# Altium footprint library JP.PcbLib: 182 footprints (part 3 of 12)
Each footprint in its own frame and in the unit in brackets; x right, y up, seen from the top. Pads: shape width x height; smd on the part's side, far side on the other; paste and mask are expansions set on the pad; w line width, h text height; cw(c..) or ccw(c..) is an arc to the next point about the centre after c.
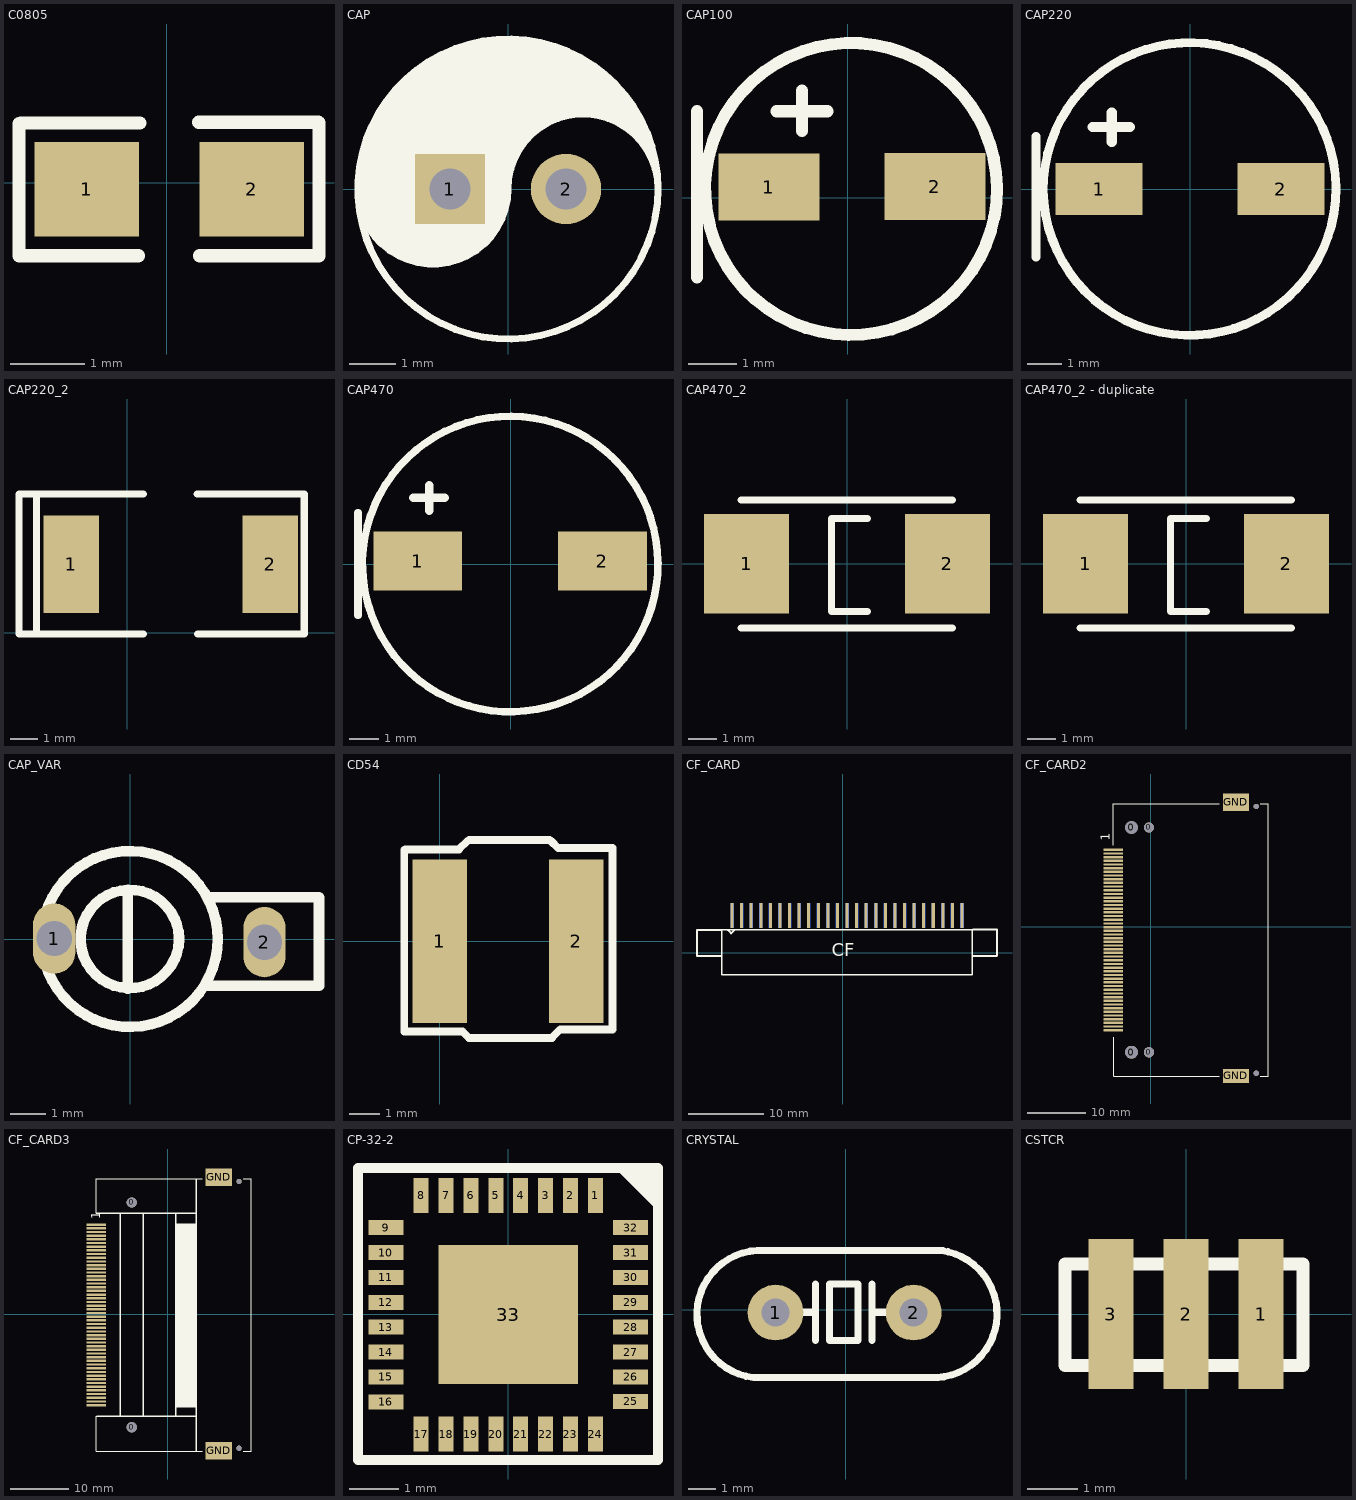
[diagram p2: the footprints below, top view; thin cyan lines are the x and y axes]

## C0805 [mm]
pads (2):
  rect 1.4x1.27 smd: 1(-1.071,-0.087) 2(1.139,-0.087)
Top Overlay:
  lines w0.178: -1.98,-0.98 -0.38,-0.98 ; -1.98,-0.976 -1.98,0.792 ; -1.96,0.8 -0.36,0.8 ; 0.43,0.81 2.03,0.81 ; 0.44,-0.98 2.04,-0.98 ; 2.04,-0.976 2.04,0.802

## CAP [mil]
pads (2):
  rect 60x60 hole 35: 1(-49.5,0)
  round 60 hole 35: 2(49.5,0)
Top Overlay:
  circle w6: c0,0 r127.95
  region: -127,-15 -127,30 -103,78 -64,112 -25,126 8,127 36,123 68,108 86,94 111,66 121,42 120,36 108,45 83,63 48,63 27,52 11,36 3,17 -1,-11 -10,-36 -29,-55 -57,-64 -84,-61 -109,-46 -125,-25
  lines w6: -127.95,0 ccw(c-63.98,0) 0,0 cw(c63.98,0) 127.95,0

## CAP100 [mm]
pads (2):
  rect 2.1x1.4 smd: 1(-1.64,0.22) 2(1.82,0.23)
Top Overlay:
  lines w0.254: -3.14,-1.66 -3.14,1.8 ; -1.48,1.8 -0.42,1.8 ; -0.95,1.39 -0.95,2.23 ; 3.113,0.2 cw(c0.07,0.18) 3.112,0.221

## CAP220 [mm]
pads (2):
  rect 2.5x1.5 smd: 1(-2.61,0) 2(2.61,0)
Top Overlay:
  lines w0.254: -4.42,-1.95 -4.42,1.51 ; 4.19,0.028 cw(c-0.01,0) 4.19,0.056
  lines w0.3: -2.79,1.78 -1.73,1.78 ; -2.25,1.35 -2.25,2.19

## CAP220_2 [mm]
height 4
pads (2):
  rect 2x3.5 smd: 1(-2.02,2.46) 2(5.15,2.46)
Top Overlay:
  lines w0.254: -3.27,0 -3.27,4.98 ; 0.58,-0.05 -3.9,-0.05 -3.9,4.99 0.59,4.99 ; 2.51,4.99 6.37,4.99 6.37,-0.05 2.53,-0.05
3D body: height 4, standoff 0, extent -3.122,0.608 6.252,4.312

## CAP470 [mm]
pads (2):
  rect 3x2 smd: 1(-3.14,0.1) 2(3.11,0.1)
Top Overlay:
  lines w0.254: -5.16,-1.73 -5.16,1.73 ; 4.99,0.034 cw(c-0.01,0) 4.99,0.067
  lines w0.3: -3.29,2.24 -2.23,2.24 ; -2.75,1.81 -2.75,2.65

## CAP470_2 [mm]
pads (2):
  rect 3x3.5 smd: 1(-3.54,0) 2(3.54,0)
Top Overlay:
  lines w0.25: -3.73,-2.26 3.72,-2.26 ; -3.73,2.24 3.72,2.24 ; 0.73,-1.68 -0.54,-1.68 -0.54,1.59 0.73,1.59
3D body: height 3, standoff 0, extent -3.855,-2.385 3.845,2.365

## CAP470_2 - duplicate [mm]
pads (2):
  rect 3x3.5 smd: 1(-3.54,0) 2(3.54,0)
Top Overlay:
  lines w0.25: -3.73,-2.26 3.72,-2.26 ; -3.73,2.24 3.72,2.24 ; 0.73,-1.68 -0.54,-1.68 -0.54,1.59 0.73,1.59
3D body: height 3, standoff 0, extent -3.855,-2.385 3.845,2.365

## CAP_VAR [mm]
pads (2):
  oval 1.2x2 hole 1: 1(-2.17,0.02) 2(3.81,-0.08)
Top Overlay:
  circle w0.3: c-0.02,0.01 r2.5
  circle w0.3: c-0.02,0.01 r1.4
  lines w0.3: -0.08,-1.4 -0.08,1.37 ; 2.22,-1.32 5.36,-1.32 ; 2.28,1.2 5.34,1.2 ; 5.36,-1.31 5.36,1.19

## CD54 [mm]
pads (2):
  rect 1.8x5.4 smd: 1(0,0) 2(4.5,0)
Top Overlay:
  lines w0.254: 0.94,3.32 0.92,3.32 0.63,3.03 -1.14,3.03 -1.16,3.01 -1.17,3.01 -1.17,-2.9 -1.17,-2.98 0.75,-2.98 0.96,-3.19 3.7,-3.19 3.98,-2.91 5.7,-2.91 5.7,3.08 5.54,3.08 3.93,3.08 ; 0.97,3.34 3.62,3.34 ; 3.66,3.31 3.67,3.31 3.91,3.07

## CF_CARD [mm]
pads (50):
  rect 0.4x3.3 smd far side: 1(-14.65,4.92) 3(-13.38,4.92) 5(-12.11,4.92) 7(-10.84,4.92) 9(-9.57,4.92) 11(-8.3,4.92) 13(-7.03,4.92) 15(-5.76,4.92) 17(-4.49,4.92) 19(-3.22,4.92) 21(-1.95,4.92) 23(-0.68,4.92) 25(0.59,4.92) 27(1.86,4.92) 29(3.13,4.92) 31(4.4,4.92) 33(5.67,4.92) 35(6.94,4.92) 37(8.21,4.92) 39(9.48,4.92) 41(10.75,4.92) 43(12.02,4.92) 45(13.29,4.92) 47(14.56,4.92) 49(15.83,4.92)
  rect 0.4x3.3 smd: 2(-14.65,4.92) 4(-13.38,4.92) 6(-12.11,4.92) 8(-10.84,4.92) 10(-9.57,4.92) 12(-8.3,4.92) 14(-7.03,4.92) 16(-5.76,4.92) 18(-4.49,4.92) 20(-3.22,4.92) 22(-1.95,4.92) 24(-0.68,4.92) 26(0.59,4.92) 28(1.86,4.92) 30(3.13,4.92) 32(4.4,4.92) 34(5.67,4.92) 36(6.94,4.92) 38(8.21,4.92) 40(9.48,4.92) 42(10.75,4.92) 44(12.02,4.92) 46(13.29,4.92) 48(14.56,4.92) 50(15.83,4.92)
Top Overlay:
  lines w0.203: -16.03,-2.96 17.2,-2.96 17.2,3.06 -16.03,3.06 -16.03,-2.95
  lines w0.254: -16.08,-0.45 -19.3,-0.45 -19.3,2.99 -19.27,3.02 -15.96,3.02 ; -15.245,3.025 -14.78,2.56 ; -14.78,2.55 -14.3,3.03 ; 17.21,-0.43 20.44,-0.43 20.47,-0.4 20.47,3.04 17.25,3.04
  text "CF" at -1.43,-1.08 h3

## CF_CARD2 [mm]
pads (58):
  round 2.2 hole 2.2 unplated: 0(-3.331,-21.631) 0(-3.331,17.104)
  round 1.75 hole 1.75 unplated: 0(-0.331,-21.631) 0(-0.331,17.104)
  round 0.9 hole 0.9 unplated: 0(18.169,-25.261) 0(18.169,20.739)
  rect 3.302x0.4 smd: 1(-6.485,13.271) 2(-6.485,12.636) 3(-6.485,12.001) 4(-6.485,11.366) 5(-6.485,10.731) 6(-6.485,10.096) 7(-6.485,9.461) 8(-6.485,8.826) 9(-6.485,8.191) 10(-6.485,7.556) 11(-6.485,6.921) 12(-6.485,6.286) 13(-6.485,5.651) 14(-6.485,5.016) 15(-6.485,4.381) 16(-6.485,3.746) 17(-6.485,3.111) 18(-6.485,2.476) 19(-6.485,1.841) 20(-6.485,1.206) 21(-6.485,0.571) 22(-6.485,-0.064) 23(-6.485,-0.699) 24(-6.485,-1.334) 25(-6.485,-1.969) 26(-6.485,-2.604) 27(-6.485,-3.239) 28(-6.485,-3.874) 29(-6.485,-4.509) 30(-6.485,-5.144) 31(-6.485,-5.779) 32(-6.485,-6.414) 33(-6.485,-7.049) 34(-6.485,-7.684) 35(-6.485,-8.319) 36(-6.485,-8.954) 37(-6.485,-9.589) 38(-6.485,-10.224) 39(-6.485,-10.859) 40(-6.485,-11.494) 41(-6.485,-12.129) 42(-6.485,-12.764) 43(-6.485,-13.399) 44(-6.485,-14.034) 45(-6.485,-14.669) 46(-6.485,-15.304) 47(-6.485,-15.939) 48(-6.485,-16.574) 49(-6.485,-17.209) 50(-6.485,-17.844)
  rect 4.5x2.4 smd: GND(14.669,-25.721)
  rect 4.5x3 smd: GND(14.669,21.489)
Top Overlay:
  lines w0.203: -6.44,14.029 -6.44,21.239 11.837,21.239 ; -6.43,-19.046 -6.43,-25.761 11.837,-25.761 ; 18.903,-25.761 20.269,-25.761 20.269,21.239 18.903,21.239
  text "1" at -7.04,14.79 h1.52

## CF_CARD3 [mm]
pads (56):
  round 1.75 hole 1.75 unplated: 0(-6.248,-19.515) 0(-6.248,19.22)
  round 0.9 hole 0.9 unplated: 0(12.252,-23.145) 0(12.252,22.855)
  rect 3.302x0.4 smd: 1(-12.355,15.411) 2(-12.355,14.776) 3(-12.355,14.141) 4(-12.355,13.506) 5(-12.355,12.871) 6(-12.355,12.236) 7(-12.355,11.601) 8(-12.355,10.966) 9(-12.355,10.331) 10(-12.355,9.696) 11(-12.355,9.061) 12(-12.355,8.426) 13(-12.355,7.791) 14(-12.355,7.156) 15(-12.355,6.521) 16(-12.355,5.886) 17(-12.355,5.251) 18(-12.355,4.616) 19(-12.355,3.981) 20(-12.355,3.346) 21(-12.355,2.711) 22(-12.355,2.076) 23(-12.355,1.441) 24(-12.355,0.806) 25(-12.355,0.171) 26(-12.355,-0.464) 27(-12.355,-1.099) 28(-12.355,-1.734) 29(-12.355,-2.369) 30(-12.355,-3.004) 31(-12.355,-3.639) 32(-12.355,-4.274) 33(-12.355,-4.909) 34(-12.355,-5.544) 35(-12.355,-6.179) 36(-12.355,-6.814) 37(-12.355,-7.449) 38(-12.355,-8.084) 39(-12.355,-8.719) 40(-12.355,-9.354) 41(-12.355,-9.989) 42(-12.355,-10.624) 43(-12.355,-11.259) 44(-12.355,-11.894) 45(-12.355,-12.529) 46(-12.355,-13.164) 47(-12.355,-13.799) 48(-12.355,-14.434) 49(-12.355,-15.069) 50(-12.355,-15.704)
  rect 4.5x3 smd: GND(8.752,-23.605) GND(8.752,23.605)
Top Overlay:
  rectangle: 1.26,-16.15 4.96,15.64
  lines w0.203: -12.367,-23.644 -12.367,-17.644 ; -12.367,17.346 -12.367,23.346 ; -12.357,23.355 5.919,23.355 ; -12.347,-23.645 5.919,-23.645 ; 12.985,-23.645 14.352,-23.645 14.352,23.355 12.985,23.355
  lines w0.25: -4.23,-17.52 -4.23,17.25
  lines w0.254: -12.337,17.376 -8.267,17.376 -8.267,-17.534 ; -12.307,-17.654 -8.307,-17.654 ; -8.49,17.376 4.82,17.376 ; -8.44,-17.654 4.87,-17.654 ; 1.35,-17.64 1.35,17.31 ; 4.87,-23.554 4.87,23.33
  text "1" at -11.66,16.32 h1.52

## CP-32-2 [mm]
pads (33):
  rect 0.3x0.7 smd: 1(1.75,2.39) 2(1.25,2.39) 3(0.75,2.39) 4(0.25,2.39) 5(-0.25,2.39) 6(-0.75,2.39) 7(-1.25,2.39) 8(-1.75,2.39) 17(-1.75,-2.41) 18(-1.25,-2.41) 19(-0.75,-2.41) 20(-0.25,-2.41) 21(0.25,-2.41) 22(0.75,-2.41) 23(1.25,-2.41) 24(1.75,-2.41)
  rect 0.7x0.3 smd: 9(-2.46,1.74) 10(-2.46,1.24) 11(-2.46,0.74) 12(-2.46,0.24) 13(-2.46,-0.26) 14(-2.46,-0.76) 15(-2.46,-1.26) 16(-2.46,-1.76) 25(2.46,-1.75) 26(2.46,-1.26) 27(2.46,-0.76) 28(2.46,-0.26) 29(2.46,0.24) 30(2.46,0.74) 31(2.46,1.24) 32(2.46,1.74)
  rect 2.794x2.794 smd: 33(0,-0.01)
Top Overlay:
  lines w0.2: -2.01,-2.93 3.01,-2.93 3.01,2.9 3.01,2.94 -3.02,2.94 -3.02,-2.82 -3.02,-2.86 -3.02,-2.89 -3.02,-2.93 -1.78,-2.93 ; 2.14,2.94 2.45,2.94 3.01,2.38 ; 2.25,2.94 2.28,2.94 2.97,2.25 ; 2.7,2.91 2.7,2.89 2.94,2.65 ; 2.86,2.91 2.86,2.88 2.92,2.82

## CRYSTAL [mm]
pads (2):
  round 2 hole 1: 1(-2.517,-0.095) 2(2.436,-0.095)
Top Overlay:
  lines w0.254: -3.316,-2.424 cw(c-3.048,-0.15) -3.175,2.136 3.48,2.136 ; -3.282,-2.419 3.322,-2.419 ; -2.1,-0.082 -1.592,-0.082 -1.084,-0.082 ; -1.084,-1.098 -1.084,0.934 ; 0.948,-1.098 0.948,0.934 ; 0.948,-0.082 1.964,-0.082 ; 3.265,-2.426 ccw(c3.138,-0.14) 3.406,2.134 ; -0.576,-1.098 -0.576,0.934 -0.068,0.934 0.44,0.934 0.44,-1.098 -0.576,-1.098
3D body: height 2.5, standoff 0, extent -5.465,-2.553 5.555,2.263

## CSTCR [mm] "CSTCR(4~8MHz)"
pads (3):
  rect 0.9x3 smd: 1(1.5,0) 2(0,0) 3(-1.5,0)
Top Overlay:
  lines w0.254: -2.42,-1.03 -2.42,1 2.34,1 2.34,-1.03 -2.42,-1.03
3D body: height 1.5, standoff 0, extent -2.547,-1.157 2.467,1.127